# EAGLE library part SN74LS32N (library ICs)
Quad 2i/p OR gate,SN74LS32N DIP14 25pcs Source: Datasheet <http://componentsearchengine.com/Datasheets/3/SN74LS32N.pdf>
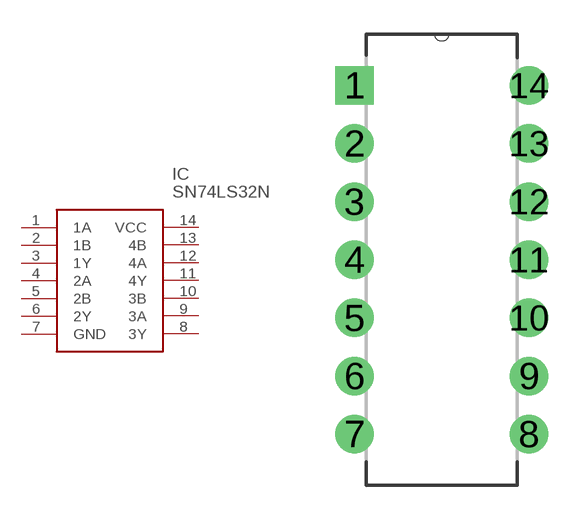
[diagram p8: symbol with the pads of DIP254P762X508-14; footprint DIP254P762X508-14]

Designator prefix IC

## SN74LS32N (DESCRIPTION: Quad 2i/p OR gate,SN74LS32N DIP14 25pcs; HEIGHT: mm; MANUFACTURER_NAME: Texas Instruments; MANUFACTURER_PART_NUMBER: SN74LS32N; MOUSER_PART_NUMBER: 595-SN74LS32N; MOUSER_PRICE-STOCK: https://www.mouser.com/Search/Refine.aspx?Keyword=595-SN74LS32N; RS_PART_NUMBER: 3686382; RS_PRICE-STOCK: http://uk.rs-online.com/web/p/products/3686382)  [DIP254P762X508-14]
1  1A
2  1B
3  1Y
4  2A
5  2B
6  2Y
7  GND
8  3Y
9  3A
10  3B
11  4Y
12  4A
13  4B
14  VCC

## Footprint DIP254P762X508-14 (pad centres in mm)
drill 1.118 square: 1 -7.62,15.24
drill 1.118: 2 -7.62,12.7; 3 -7.62,10.16; 4 -7.62,7.62; 5 -7.62,5.08; 6 -7.62,2.54; 7 -7.62,0; 8 0,0; 9 0,2.54; 10 0,5.08; 11 0,7.62; 12 0,10.16; 13 0,12.7; 14 0,15.24